# EAGLE library part ADV7302A_ADV7303A (library zz-m-pad-2.1)
Analog Device ADV7302A/ADV7303A Multiformat SD, Progressive Scan/HDTV Video Encoder with Six 11-Bit DACs DESCRIPTION: The ADV7302A/ADV7303A is a high speed, digital-to-analog encoder on a single monolithic chip. It includes six high speed video D/A converters with TTL compatible inputs. The ADV7302A/ADV7303A has three separate 8-bit wide input ports that accept data in high definition and/or standard definition video format. For all standards, external horizontal, vertical, and blanking signals, or EAV/SAV timing codes, control the insertion of appropriate synchronization signals into the digital data stream and therefore the output signals. FEATURES: High Definition Input Formats: - YCrCb Compliant to SMPTE293M (525 p), ITU-R.BT1358 (625 p), SMPTE274M (1080 i), SMPTE296M (720 p), and Any Other High Definition Standard Using Async Timing Mode - RGB in 3 8-Bit 4:4:4 Format - BTA T-1004 EDTV2 525 p Parallel High Definition Output Formats (525 p/625 p/720 p/1080 i) - YPrPb Progressive Scan (EIA-770.1, EIA-770.2) - YPrPb HDTV (EIA 770.3) - RGB + H/V (HDTV 5-Wire Format) - CGMS-A (720 p/1080 i) - Macrovision Rev 1.0 (525 p/625 p)* CGMS-A (525 p) Standard Definition Input Formats: - CCIR-656 4:2:2 8-Bit Parallel Input - CCIR-601 4:2:2 16-Bit Parallel Input Standard Definition Output Formats: - Composite NTSC M, N; - PAL M, N, B, D, G, H, I, PAL-60 - SMPTE170M NTSC Compatible Composite Video - ITU-R.BT470 PAL Compatible Composite Video - S-Video (Y/C) - EuroScart RGB - Component YUV (Betacam, MII, SMPTE/EBU N10) - Macrovision Rev 7.1* CGMS/WSS Closed Captioning GENERAL FEATURES: Simultaneous SD and HD Inputs and Outputs Oversampling (108 MHz/148.5 MHz) On-Board Voltage Reference 6 Precision Video 11-Bit DACs 2-Wire Serial MPU Interface Dual I/O Supply 2.5 V/3.3 V Operation Analog and Digital Supply 2.5 V On-Board PLL 64-LQFP Package Lead-Free Product APPLICATIONS: DVD Players SD/HD Display Devices SD/HD Set-Top Boxes SD/HDTV Studio Equipment Please send any comments to: messi@users.sourceforge.net
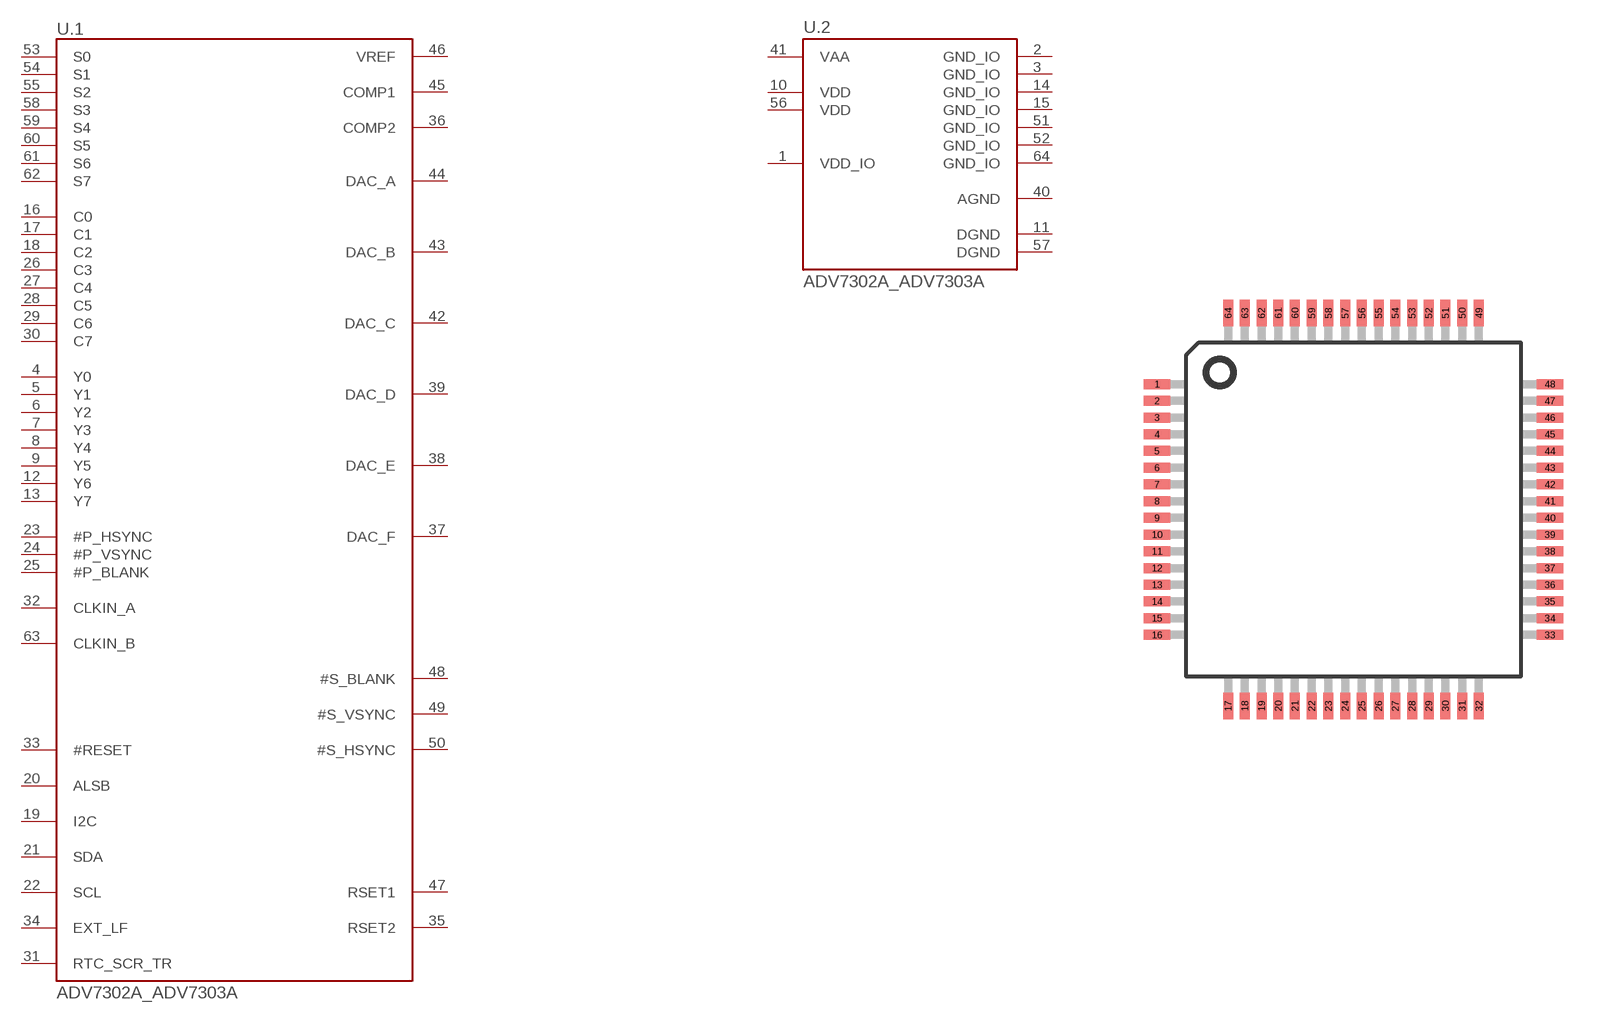
[diagram p149: symbol with the pads of LQFP64; footprint LQFP64]

Designator prefix U; gates .1=ADV7302A_ADV7303A .2=ADV7302A_ADV7303A_PWR

## ADV7302A_ADV7303A  [LQFP64]
1  .2:VDD_IO  pwr
2  .2:GND_IO  pwr
3  .2:GND_IO  pwr
4  .1:Y0  in
5  .1:Y1  in
6  .1:Y2  in
7  .1:Y3  in
8  .1:Y4  in
9  .1:Y5  in
10  .2:VDD  pwr
11  .2:DGND  pwr
12  .1:Y6  in
13  .1:Y7  in
14  .2:GND_IO  pwr
15  .2:GND_IO  pwr
16  .1:C0  in
17  .1:C1  in
18  .1:C2  in
19  .1:I2C  in
20  .1:ALSB
21  .1:SDA
22  .1:SCL  in
23  .1:#P_HSYNC
24  .1:#P_VSYNC
25  .1:#P_BLANK
26  .1:C3  in
27  .1:C4  in
28  .1:C5  in
29  .1:C6  in
30  .1:C7  in
31  .1:RTC_SCR_TR  in
32  .1:CLKIN_A  in
33  .1:#RESET  in
34  .1:EXT_LF  in
35  .1:RSET2  in
36  .1:COMP2  out
37  .1:DAC_F  out
38  .1:DAC_E  out
39  .1:DAC_D  out
40  .2:AGND  pwr
41  .2:VAA  pwr
42  .1:DAC_C  out
43  .1:DAC_B  out
44  .1:DAC_A  out
45  .1:COMP1  out
46  .1:VREF
47  .1:RSET1  in
48  .1:#S_BLANK
49  .1:#S_VSYNC
50  .1:#S_HSYNC
51  .2:GND_IO  pwr
52  .2:GND_IO  pwr
53  .1:S0  in
54  .1:S1  in
55  .1:S2  in
56  .2:VDD  pwr
57  .2:DGND  pwr
58  .1:S3  in
59  .1:S4  in
60  .1:S5  in
61  .1:S6  in
62  .1:S7  in
63  .1:CLKIN_B  in
64  .2:GND_IO  pwr

## Footprint LQFP64 (pad centres in mm)
Analog's 64-Lead Thin Plastic Quad Flatpack [LQFP] (ST-64B)
smd 0.8 x 0.3: 1 -5.875,3.75; 2 -5.875,3.25; 3 -5.875,2.75; 4 -5.875,2.25; 5 -5.875,1.75; 6 -5.875,1.25; 7 -5.875,0.75; 8 -5.875,0.25; 9 -5.875,-0.25; 10 -5.875,-0.75; 11 -5.875,-1.25; 12 -5.875,-1.75; 13 -5.875,-2.25; 14 -5.875,-2.75; 15 -5.875,-3.25; 16 -5.875,-3.75; 33 5.875,-3.75; 34 5.875,-3.25; 35 5.875,-2.75; 36 5.875,-2.25; 37 5.875,-1.75; 38 5.875,-1.25; 39 5.875,-0.75; 40 5.875,-0.25; 41 5.875,0.25; 42 5.875,0.75; 43 5.875,1.25; 44 5.875,1.75; 45 5.875,2.25; 46 5.875,2.75; 47 5.875,3.25; 48 5.875,3.75
smd 0.3 x 0.8: 17 -3.75,-5.875; 18 -3.25,-5.875; 19 -2.75,-5.875; 20 -2.25,-5.875; 21 -1.75,-5.875; 22 -1.25,-5.875; 23 -0.75,-5.875; 24 -0.25,-5.875; 25 0.25,-5.875; 26 0.75,-5.875; 27 1.25,-5.875; 28 1.75,-5.875; 29 2.25,-5.875; 30 2.75,-5.875; 31 3.25,-5.875; 32 3.75,-5.875; 49 3.75,5.875; 50 3.25,5.875; 51 2.75,5.875; 52 2.25,5.875; 53 1.75,5.875; 54 1.25,5.875; 55 0.75,5.875; 56 0.25,5.875; 57 -0.25,5.875; 58 -0.75,5.875; 59 -1.25,5.875; 60 -1.75,5.875; 61 -2.25,5.875; 62 -2.75,5.875; 63 -3.25,5.875; 64 -3.75,5.875